# EAGLE library part AUDIO-AMP-STEREO-HEADSET-TPA6138 (library FlashPCB_ICs)
TPA6138 - IC AMP CLSS AB STER 40MW 14TSSOP Technical Specifications: Amplifier IC Headphones, 2-Channel (Stereo) Class AB 14-TSSOP Output Type: Headphones, 2-Channel (Stereo) Max Power Output: 40mW x2 @ 32 Ohm Supply Voltage: 3V~3.6V Features: Depop, Differential Inputs, Mute, Short-Circuit Protection Component Search: TPA6138 <https://www.flashpcb.com/components> Datasheet: TPA6138A2 DirectPath™ Headphone Driver With Adjustable Gain datasheet (Rev. B) <https://www.ti.com/lit/ds/symlink/tpa6138a2.pdf?HQS=dis-dk-null-digikeymode-dsf-pf-null-wwe&ts=1685566303446&ref_url=https%253A%252F%252Fwww.ti.com%252Fgeneral%252Fdocs%252Fsuppproductinfo.tsp%253FdistId%253D10%2526gotoUrl%253Dhttps%253A%252F%252Fwww.ti.com%252Flit%252Fgpn%252Ftpa6138a2>
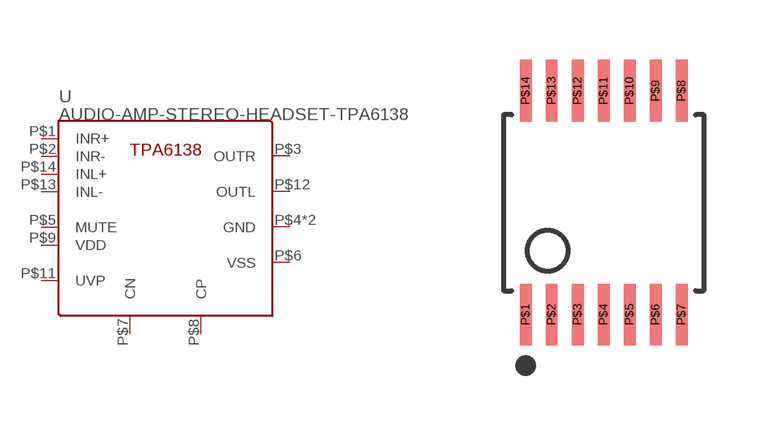
[diagram p20: symbol with the pads of 14-TSSOP(4.4MMX5.0MM); footprint 14-TSSOP(4.4MMX5.0MM)]

Designator prefix U

## AUDIO-AMP-STEREO-HEADSET-TPA6138PW  [14-TSSOP(4.4MMX5.0MM)]
P$1  INR+
P$2  INR-
P$3  OUTR
P$4  GND
P$5  MUTE
P$6  VSS
P$7  CN
P$8  CP
P$9  VDD
P$10  GND
P$11  UVP
P$12  OUTL
P$13  INL-
P$14  INL+

## Footprint 14-TSSOP(4.4MMX5.0MM) (pad centres in mm)
smd 0.3 x 1.55: P$1 -1.95,-2.8; P$2 -1.3,-2.8; P$3 -0.65,-2.8; P$4 0,-2.8; P$5 0.65,-2.8; P$6 1.3,-2.8; P$7 1.95,-2.8; P$8 1.95,2.8; P$9 1.3,2.8; P$10 0.65,2.8; P$11 0,2.8; P$12 -0.65,2.8; P$13 -1.3,2.8; P$14 -1.95,2.8